# Altium footprint library SMTU2430-LF.PcbLib: 1 footprints
Each footprint in its own frame and in the unit in brackets; x right, y up, seen from the top. Pads: shape width x height; smd on the part's side, far side on the other; paste and mask are expansions set on the pad; w line width, h text height; cw(c..) or ccw(c..) is an arc to the next point about the centre after c.
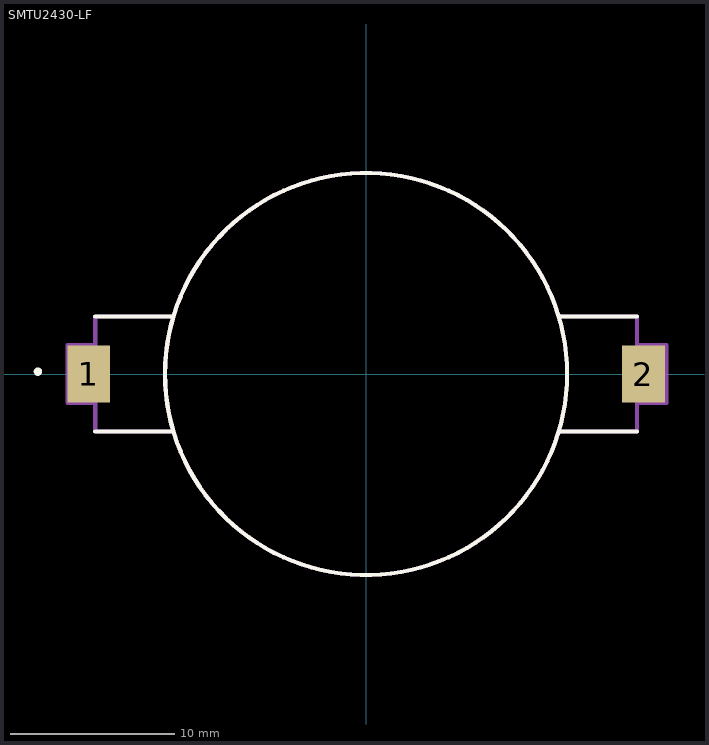
[diagram p0: the footprint, top view; thin cyan lines are the x and y axes]

## SMTU2430-LF [mm]
pads (2):
  rect 2.6x3.5 smd: 1(-16.9,0) 2(16.9,0)
L26-Silk Screen Top (Multiple PADS layers...):
  circle w0.254: c-19.998,0.143 r0.125
  circle w0.254: c0,0 r12.25
  lines w0.254: -16.5,-3.5 -11.73,-3.5 ; -16.5,3.5 -11.73,3.5 ; 11.73,-3.5 16.5,-3.5 ; 11.73,3.5 16.5,3.5
L15 (Multiple PADS layers...):
  circle w0.254: c0,0 r12.25
  lines w0.254: -11.73,-3.5 -16.5,-3.5 -16.5,-1.75 -18.2,-1.75 -18.2,1.75 -16.5,1.75 -16.5,3.5 -11.73,3.5 ; 11.73,-3.5 16.5,-3.5 16.5,-1.772 18.305,-1.772 18.305,1.75 16.5,1.75 16.5,3.5 11.73,3.5